# Altium footprint library CON-Coaxial.PcbLib: 3 footprints
Each footprint in its own frame and in the unit in brackets; x right, y up, seen from the top. Pads: shape width x height; smd on the part's side, far side on the other; paste and mask are expansions set on the pad; w line width, h text height; cw(c..) or ccw(c..) is an arc to the next point about the centre after c.
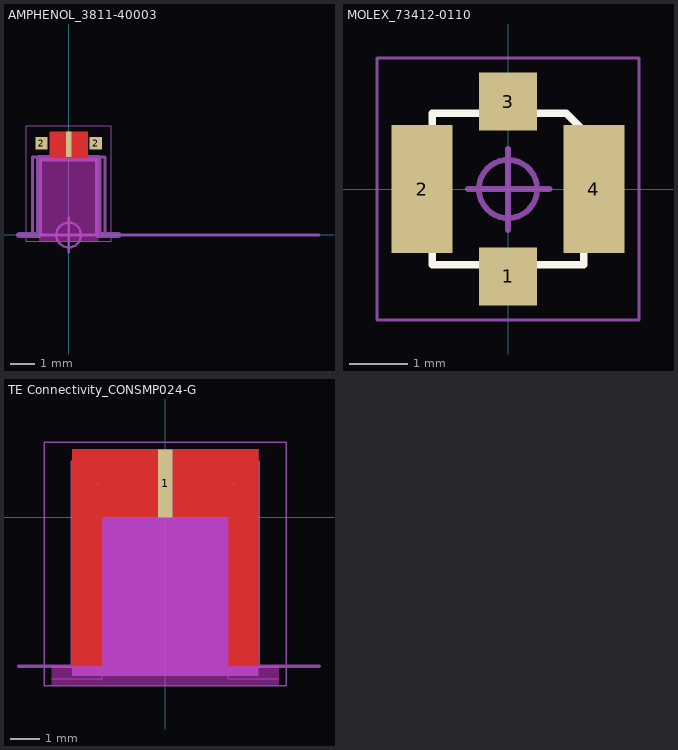
[diagram p0: the footprints below, top view; thin cyan lines are the x and y axes]

## AMPHENOL_3811-40003 [mm]
height 1.37
pads (3):
  rect 0.23x1.02 smd mask+0.102: 1(0,3.661)
  rect 0.5x0.5 smd paste-1 mask+0.15: 2(-1.1,3.701) 2(1.1,3.701)
Top Layer:
  pour cut-out: 0.761,3.101 0.761,4.171 -0.76,4.171 -0.76,3.101
Top Solder:
  rectangle: -2,-0.171 2,4.329
Keep-Out Layer:
  board cut-out: -1.195,-0.254 -1.195,3.101 1.195,3.101 1.195,-0.254
Board:
  lines w0.254: -2.007,0 -1.195,0 -1.195,3.101 1.195,3.101 1.195,0 2.007,0
Top Assembly:
  lines w0.127: -1.46,0.001 1.46,0.001 1.46,3.151 -1.46,3.151 -1.46,0.001
Top Component Outline:
  lines w0.05: -1.71,-0.249 1.71,-0.249 1.71,4.421 -1.71,4.421 -1.71,-0.249
Top Component Center:
  circle w0.1: c0.001,0 r0.5
  lines w0.1: -0.685,0 0.712,0 ; 0,-0.706 0,0.691
Fab Notes:
  lines w0.13: -1.46,0 10.109,0
  text "PCB Edge" at 2.159,0.281 h1
3D body "3811-40003--3DModel-STEP-1.STEP": height 1.39, standoff -0.99, extent -1.46,0.003 1.461,4.169

## MOLEX_73412-0110 [mm]
height 1.31
pads (4):
  rect 1x1 smd: 1(0,-1.5) 3(0,1.5)
  rect 1.05x2.2 smd: 2(-1.475,0) 4(1.475,0)
Top Overlay:
  lines w0.127: -1.3,-1.3 -1.3,1.3 1,1.3 1.3,1 1.3,-1.3 -1.3,-1.3
Top Component Outline:
  lines w0.05: -2.25,-2.25 2.25,-2.25 2.25,2.25 -2.25,2.25 -2.25,-2.25
Top Component Center:
  circle w0.1: c0,0 r0.5
  lines w0.1: -0.686,0 0.711,0 ; -0.001,-0.706 -0.001,0.691
3D body "0734120110.STEP": height 1.25, standoff 0, extent -1.5,-1.54 1.5,1.54

## TE Connectivity_CONSMP024-G [mm]
height 4.35
pads (3):
  rect 0.5x2.32 smd: 1(0,1.16)
  round 0.025 smd paste-1 mask+0: 2(-2.32,1.16) 2(2.32,1.16)
Top Layer:
  pour cut-out: 0.75,2.32 0.25,2.32 0.25,0 0.75,0
  pour cut-out: -0.25,2.32 -0.75,2.32 -0.75,0 -0.25,0
  region: -3.175,2.32 -3.175,-5.08 -2.15,-5.08 -2.15,0 -0.75,0 -0.75,2.32
  region: 0.75,2.32 0.75,0 2.15,0 2.15,-5.08 3.175,-5.08 3.175,2.32
Keep-Out Layer:
  board cut-out: -3.875,-5.714 -3.875,-5.08 -2.15,-5.08 -2.15,0 2.15,0 2.15,-5.08 3.875,-5.08 3.875,-5.714
Board:
  cavity: 3.175,-5.397 -3.174,-5.397 -3.174,2.32 3.175,2.32
  lines w0: -3.875,-5.5 -2.15,-5.5 -2.15,0 2.15,0 2.15,-5.5 3.875,-5.5
Top Assembly:
  lines w0.127: -3.175,-0.42 -3.175,-5.08 3.175,-5.08 3.175,-0.42 ; -3.175,-0.42 -3.175,1.9 -2.025,1.9 -2.025,-0.42 ; -3.175,-0.42 -2.025,-0.42 ; -2.025,-0.42 -0.2,-0.42 ; -0.2,-0.42 -0.2,1.9 0.2,1.9 0.2,-0.42 ; -0.2,-0.42 0.2,-0.42 ; 0.2,-0.42 2.025,-0.42 ; 2.025,-0.42 3.175,-0.42 ; 2.025,-0.42 2.025,1.9 3.175,1.9 3.175,-0.42
Top Component Outline:
  lines w0.05: -4.125,-5.75 -4.125,2.57 4.125,2.57 4.125,-5.75 -4.125,-5.75
Fab Notes:
  lines w0.127: -4.993,-5.08 5.247,-5.08
  text "PCB Edge" at 5.247,-5.08 h0.81
3D body "step_temp.STEP": height 2.47, standoff -1.88, extent -3.174,-5.08 3.175,2.32